# EAGLE library part ATMEGA16U2- (library Arduino_MEGA_2560-Rev3)
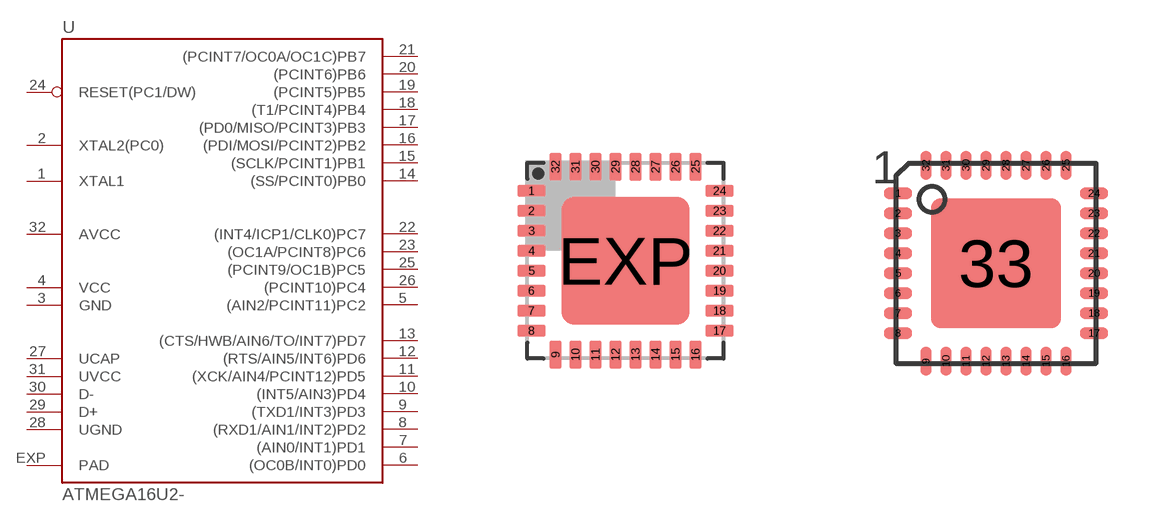
[diagram p0: symbol with the pads of ATMEL_QFN32; footprints ATMEL_QFN32, MLF32]

Designator prefix -

## ATMEGA16U2-  [ATMEL_QFN32]
1  XTAL1
2  XTAL2(PC0)
3  GND  pwr
4  VCC  pwr
5  (AIN2/PCINT11)PC2
6  (OC0B/INT0)PD0
7  (AIN0/INT1)PD1
8  (RXD1/AIN1/INT2)PD2
9  (TXD1/INT3)PD3
10  (INT5/AIN3)PD4
11  (XCK/AIN4/PCINT12)PD5
12  (RTS/AIN5/INT6)PD6
13  (CTS/HWB/AIN6/TO/INT7)PD7
14  (SS/PCINT0)PB0
15  (SCLK/PCINT1)PB1
16  (PDI/MOSI/PCINT2)PB2
17  (PD0/MISO/PCINT3)PB3
18  (T1/PCINT4)PB4
19  (PCINT5)PB5
20  (PCINT6)PB6
21  (PCINT7/OC0A/OC1C)PB7
22  (INT4/ICP1/CLK0)PC7
23  (OC1A/PCINT8)PC6
24  RESET(PC1/DW)  in
25  (PCINT9/OC1B)PC5
26  (PCINT10)PC4
27  UCAP  pas
28  UGND  pwr
29  D+
30  D-
31  UVCC  pwr
32  AVCC  pwr
EXP  PAD  pwr

## ATMEGA16U2-MU  [MLF32]
1  XTAL1
2  XTAL2(PC0)
3  GND  pwr
4  VCC  pwr
5  (AIN2/PCINT11)PC2
6  (OC0B/INT0)PD0
7  (AIN0/INT1)PD1
8  (RXD1/AIN1/INT2)PD2
9  (TXD1/INT3)PD3
10  (INT5/AIN3)PD4
11  (XCK/AIN4/PCINT12)PD5
12  (RTS/AIN5/INT6)PD6
13  (CTS/HWB/AIN6/TO/INT7)PD7
14  (SS/PCINT0)PB0
15  (SCLK/PCINT1)PB1
16  (PDI/MOSI/PCINT2)PB2
17  (PD0/MISO/PCINT3)PB3
18  (T1/PCINT4)PB4
19  (PCINT5)PB5
20  (PCINT6)PB6
21  (PCINT7/OC0A/OC1C)PB7
22  (INT4/ICP1/CLK0)PC7
23  (OC1A/PCINT8)PC6
24  RESET(PC1/DW)  in
25  (PCINT9/OC1B)PC5
26  (PCINT10)PC4
27  UCAP  pas
28  UGND  pwr
29  D+
30  D-
31  UVCC  pwr
32  AVCC  pwr
33  PAD  pwr

## Footprint ATMEL_QFN32 (pad centres in mm)
QFN 32 5 x 5 mm Source: http://datasheets.maxim-ic.com/en/ds/MAX7042.pdf
smd 0.711 x 0.305: 1 -2.351,1.75; 2 -2.351,1.25; 3 -2.351,0.75; 4 -2.351,0.25; 5 -2.351,-0.25; 6 -2.351,-0.75; 7 -2.351,-1.25; 8 -2.351,-1.75; 17 2.351,-1.75; 18 2.351,-1.25; 19 2.351,-0.75; 20 2.351,-0.25; 21 2.351,0.25; 22 2.351,0.75; 23 2.351,1.25; 24 2.351,1.75
smd 0.305 x 0.711: 9 -1.75,-2.351; 10 -1.25,-2.351; 11 -0.75,-2.351; 12 -0.25,-2.351; 13 0.25,-2.351; 14 0.75,-2.351; 15 1.25,-2.351; 16 1.75,-2.351; 25 1.75,2.351; 26 1.25,2.351; 27 0.75,2.351; 28 0.25,2.351; 29 -0.25,2.351; 30 -0.75,2.351; 31 -1.25,2.351; 32 -1.75,2.351
smd 3.2 x 3.2: EXP 0,0

## Footprint MLF32 (pad centres in mm)
mlf-32
smd 0.7 x 0.28: 1 -2.45,1.75; 2 -2.45,1.25; 3 -2.45,0.75; 4 -2.45,0.25; 5 -2.45,-0.25; 6 -2.45,-0.75; 7 -2.45,-1.25; 8 -2.45,-1.75; 17 2.45,-1.75; 18 2.45,-1.25; 19 2.45,-0.75; 20 2.45,-0.25; 21 2.45,0.25; 22 2.45,0.75; 23 2.45,1.25; 24 2.45,1.75
smd 0.28 x 0.7: 9 -1.75,-2.45; 10 -1.25,-2.45; 11 -0.75,-2.45; 12 -0.25,-2.45; 13 0.25,-2.45; 14 0.75,-2.45; 15 1.25,-2.45; 16 1.75,-2.45; 25 1.75,2.45; 26 1.25,2.45; 27 0.75,2.45; 28 0.25,2.45; 29 -0.25,2.45; 30 -0.75,2.45; 31 -1.25,2.45; 32 -1.75,2.45
smd 3.254 x 3.254: 33 0,0